# EAGLE library part HEADER-1X7 (library microbuilder)
PIN HEADER
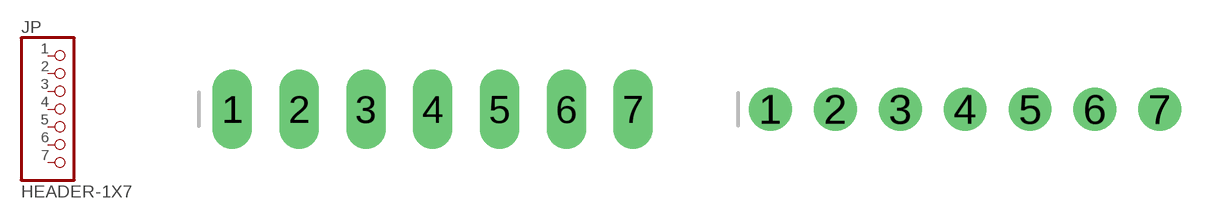
[diagram p13: symbol with the pads of 1X07_OVAL; footprints 1X07_OVAL, 1X07_ROUND]

Designator prefix JP

## HEADER-1X7  [1X07_OVAL]
1  1  pas
2  2  pas
3  3  pas
4  4  pas
5  5  pas
6  6  pas
7  7  pas

## HEADER-1X7ROUND  [1X07_ROUND]
Pads as for 1X07_OVAL

## HEADER-1X7THICKER  [1X07_ROUND_76]
Pads as for 1X07_OVAL

## Footprint 1X07_OVAL (pad centres in mm)
PIN HEADER
drill 1 long: 1 -7.62,0; 2 -5.08,0; 3 -2.54,0; 4 0,0; 5 2.54,0; 6 5.08,0; 7 7.62,0

## Footprint 1X07_ROUND (pad centres in mm)
drill 1 pad 1.676: 1 -7.62,0; 2 -5.08,0; 3 -2.54,0; 4 0,0; 5 2.54,0; 6 5.08,0; 7 7.62,0

## Footprint 1X07_ROUND_76 (pad centres in mm)
drill 1 pad 1.93: 1 -7.62,0; 2 -5.08,0; 3 -2.54,0; 4 0,0; 5 2.54,0; 6 5.08,0; 7 7.62,0